# EAGLE library part SIM8PIN (library chiptron_cz)
SIM card 8 PIN with card detect ATTEND
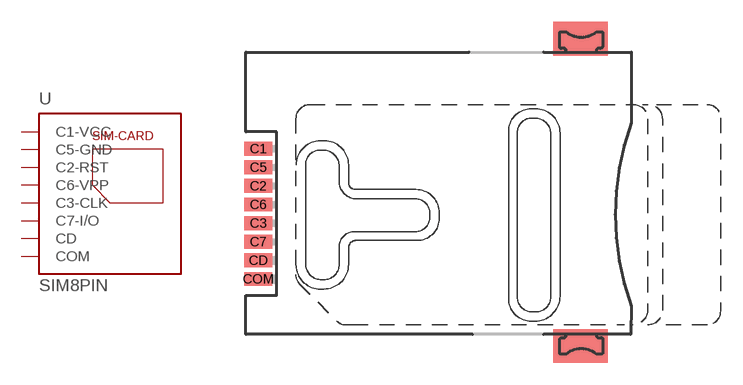
[diagram p3: symbol with the pads of SIM8PIN; footprint SIM8PIN]

Designator prefix -

## SIM8PIN  [SIM8PIN]
C1  C1-VCC  pas
C2  C2-RST  pas
C3  C3-CLK  pas
C5  C5-GND  pas
C6  C6-VPP  pas
C7  C7-I/O  pas
CD  CD  pas
COM  COM  pas

## Footprint SIM8PIN (pad centres in mm)
SIM card 8 PIN with card detect attend
smd 1.9 x 0.95: C1 -14.47,2.98; C2 -14.47,0.44; C3 -14.47,-2.1; C5 -14.47,1.71; C6 -14.47,-0.83; C7 -14.47,-3.37; CD -14.47,-4.64; COM -14.47,-5.91